# Altium schematic symbol library STM32F103R4H7A.SchLib: 1 symbol
Pins are listed as number, name and electrical type; pins without a type are passive.

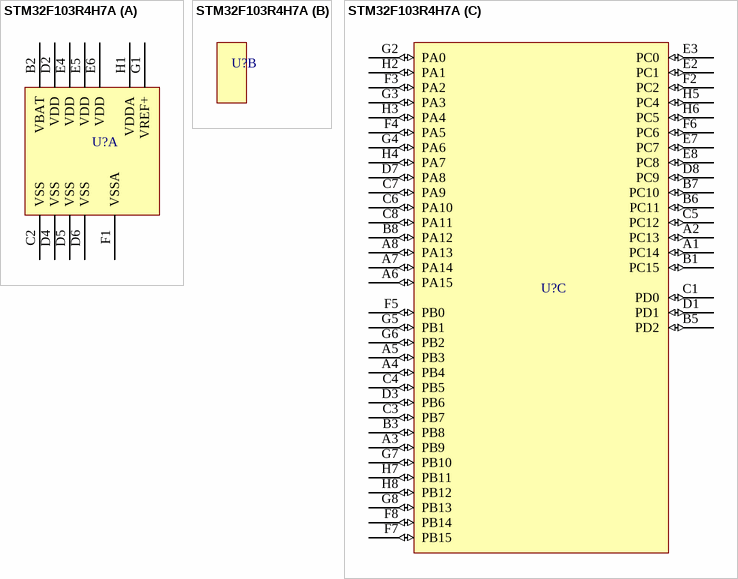
[diagram p0: symbol STM32F103R4H7A]

## STM32F103R4H7A
designator U?  (value not drawn)
Mainstream Performance line, Arm Cortex-M3 MCU with 16 Kbytes of Flash memory, 72 MHz CPU, motor control, USB and CAN
part A pins: B2 VBAT (power), C2 VSS (power), D2 VDD (power), D4 VSS (power), D5 VSS (power), D6 VSS (power), E4 VDD (power), E5 VDD (power), E6 VDD (power), F1 VSSA (power), G1 VREF+ (power), H1 VDDA (power)
part C pins: A1 PC14 (io), A2 PC13 (io), A3 PB9 (io), A4 PB4 (io), A5 PB3 (io), A6 PA15 (io), A7 PA14 (io), A8 PA13 (io), B1 PC15 (io), B3 PB8 (io), B5 PD2 (io), B6 PC11 (io), B7 PC10 (io), B8 PA12 (io), C1 PD0 (io), C3 PB7 (io), C4 PB5 (io), C5 PC12 (io), C6 PA10 (io), C7 PA9 (io), C8 PA11 (io), D1 PD1 (io), D3 PB6 (io), D7 PA8 (io), D8 PC9 (io), E2 PC1 (io), E3 PC0 (io), E7 PC7 (io), E8 PC8 (io), F2 PC2 (io), F3 PA2 (io), F4 PA5 (io), F5 PB0 (io), F6 PC6 (io), F7 PB15 (io), F8 PB14 (io), G2 PA0 (io), G3 PA3 (io), G4 PA6 (io), G5 PB1 (io), G6 PB2 (io), G7 PB10 (io), G8 PB13 (io), H2 PA1 (io), H3 PA4 (io), H4 PA7 (io), H5 PC4 (io), H6 PC5 (io), H7 PB11 (io), H8 PB12 (io)